# Altium footprint library CONECTER.PcbLib: 145 footprints (part 1 of 10)
Each footprint in its own frame and in the unit in brackets; x right, y up, seen from the top. Pads: shape width x height; smd on the part's side, far side on the other; paste and mask are expansions set on the pad; w line width, h text height; cw(c..) or ccw(c..) is an arc to the next point about the centre after c.
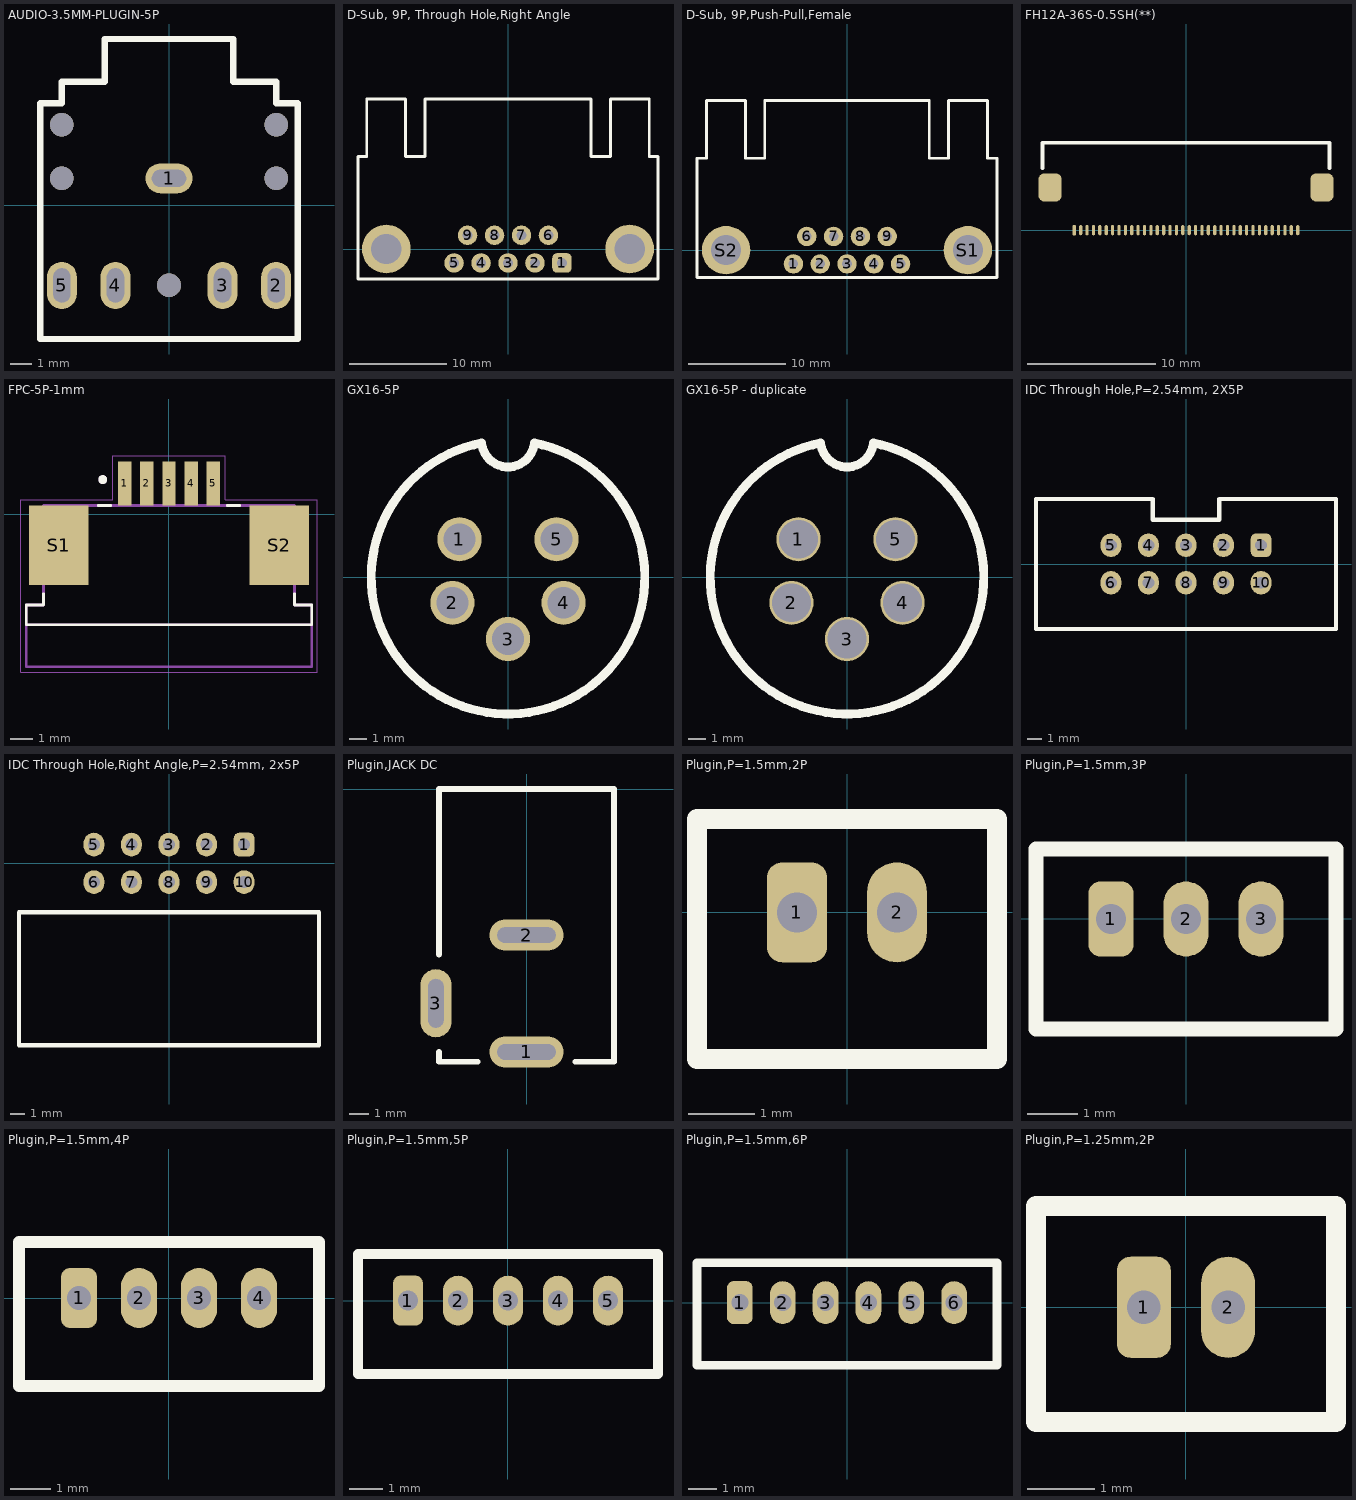
[diagram p0: the footprints below, top view; thin cyan lines are the x and y axes]

## AUDIO-3.5MM-PLUGIN-5P [mm]
pads (5):
  oval 2.2x1.4 hole 0.8 slot 1.6 at 0 deg: 1(0,1.25)
  oval 1.4x2.2 hole 0.8 slot 1.6 at 90 deg: 2(5,-3.75) 3(2.5,-3.75) 4(-2.5,-3.75) 5(-5,-3.75)
via -5,3.75 diameter 1.1 hole 1.1
via -5,1.25 diameter 1.1 hole 1.1
via 0,-3.75 diameter 1.1 hole 1.1
via 5,1.25 diameter 1.1 hole 1.1
via 5,3.75 diameter 1.1 hole 1.1
Top Overlay:
  lines w0.3: -5,5.75 -4.1,5.75 -3,5.75 -3,7.75 3,7.75 3,5.75 4.1,5.75 5,5.75 ; -5,5.75 -5,5.75 ; -5,5.75 -5,4.75 -6,4.75 -6,-6.25 6,-6.25 6,4.75 5,4.75 5,5.75 ; 5,5.75 5,5.75

## D-Sub, 9P, Through Hole,Right Angle [mm]
pads (11):
  rrect50% 2x2 hole 1 mask+0.2: 1(5.54,-1.42)
  round 2 hole 1 mask+0.2: 2(2.77,-1.42) 3(0,-1.42) 4(-2.77,-1.42) 5(-5.54,-1.42) 6(4.155,1.42) 7(1.385,1.42) 8(-1.385,1.42) 9(-4.155,1.42)
  round 5 hole 3.1 mask+0.2: ""(-12.495,0) ""(12.495,0)
Top Overlay:
  lines w0.3: -15.4,9.5 -15.4,-3.08 15.4,-3.08 15.4,9.5 ; -15.4,9.52 -14.505,9.52 -14.505,15.42 -10.505,15.42 -10.505,9.52 -8.5,9.52 -8.5,15.42 8.5,15.42 8.5,9.52 10.505,9.52 10.505,15.42 14.505,15.42 14.505,9.52 15.4,9.52
3D body "DS1037-9M.STEP": height 12.5, standoff -4.4, extent -15.5,-3.08 15.5,15.42

## D-Sub, 9P,Push-Pull,Female [mm]
pads (11):
  round 2 hole 1 mask+0.2: 1(-5.54,-1.42) 2(-2.77,-1.42) 3(0,-1.42) 4(2.77,-1.42) 5(5.54,-1.42) 6(-4.155,1.42) 7(-1.385,1.42) 8(1.385,1.42) 9(4.155,1.42)
  round 5 hole 3.1 mask+0.2: S1(12.495,0) S2(-12.495,0)
Top Overlay:
  lines w0.3: -15.505,-2.83 15.505,-2.83 15.505,9.5 14.505,9.5 14.505,15.47 10.505,15.47 10.505,9.5 8.5,9.5 8.5,15.47 -8.5,15.47 -8.5,9.5 -10.505,9.5 -10.505,15.47 -14.505,15.47 -14.505,9.5 -15.505,9.5 -15.505,-2.83
3D body "DS1037-9F.STEP": height 12.5, standoff -4.4, extent -15.5,-2.83 15.5,15.47

## FH12A-36S-0.5SH(**) [mm]
pads (38):
  rrect50% 0.25x0.8 smd: 1(-8.75,0)
  oval 0.25x0.8 smd: 2(-8.25,0) 3(-7.75,0) 4(-7.25,0) 5(-6.75,0) 6(-6.25,0) 7(-5.75,0) 8(-5.25,0) 9(-4.75,0) 10(-4.25,0) 11(-3.75,0) 12(-3.25,0) 13(-2.75,0) 14(-2.25,0) 15(-1.75,0) 16(-1.25,0) 17(-0.75,0) 18(-0.25,0) 19(0.25,0) 20(0.75,0) 21(1.25,0) 22(1.75,0) 23(2.25,0) 24(2.75,0) 25(3.25,0) 26(3.75,0) 27(4.25,0) 28(4.75,0) 29(5.25,0) 30(5.75,0) 31(6.25,0) 32(6.75,0) 33(7.25,0) 34(7.75,0) 35(8.25,0) 36(8.75,0)
  rrect50% 1.8x2.2 smd: ""(-10.65,3.35) ""(10.65,3.35)
Top Overlay:
  lines w0.3: -11.25,4.85 -11.25,6.85 11.25,6.85 11.25,4.85
3D body "FH12A-36S-0.5SH.stp": height 2.05, standoff -0.1, extent -11.25,-0.1 11.25,6.9

## FPC-5P-1mm [mm]
pads (7):
  rect 0.61x2 smd: 1(-2,1.4) 2(-1,1.4) 3(0,1.4) 4(1,1.4) 5(2,1.4)
  rect 2.68x3.6 smd: S1(-4.99,-1.4) S2(4.99,-1.4)
Top Overlay:
  circle w0.2: c-3,1.57 r0.1
  lines w0.127: -5.675,-3.6 -5.675,-4.11 -6.46,-4.11 -6.46,-5 6.46,-5 6.46,-4.11 5.675,-4.11 5.675,-3.6 ; -3.2,0.4 -2.64,0.4 ; 2.64,0.4 3.2,0.4
3D:
  circle w0.2: c-3,1.57 r0.1
  lines w0.127: -6.46,-5 -6.46,-6.9 6.46,-6.9 6.46,-5 ; -6.46,-5 6.46,-5 ; -6.46,-5 -6.46,-4.11 -5.675,-4.11 -5.675,0.4 5.675,0.4 5.675,-4.11 6.46,-4.11 6.46,-5
Mechanical 15:
  lines w0.05: -6.71,-7.15 6.71,-7.15 6.71,0.65 2.555,0.65 2.555,2.65 -2.555,2.65 -2.555,0.65 -6.71,0.65 -6.71,-7.15
3D body "84952-5.stp": height 2.24, standoff -0.32, extent -6.465,-4.837 6.465,1.703

## GX16-5P [mm]
pads (5):
  round 2.5 hole 1.8: 1(-2.75,2.15) 2(-3.15,-1.45) 3(0,-3.5) 4(3.15,-1.45) 5(2.75,2.15)
Top Overlay:
  lines w0.5: -1.493,7.605 ccw(c0,0) 1.493,7.605 cw(c0,7.75) -1.493,7.605
3D body "GX-16 Connector 5 Pins.stp": height 19, standoff -1, extent -9.5,-10.989 9.5,10.95

## GX16-5P - duplicate [mm]
pads (5):
  round 2.5 hole 2.2: 1(-2.75,2.15) 2(-3.15,-1.45) 3(0,-3.5) 4(3.15,-1.45) 5(2.75,2.15)
Top Overlay:
  lines w0.5: -1.493,7.605 ccw(c0,0) 1.493,7.605 cw(c0,7.75) -1.493,7.605
3D body "GX-16 Connector 5 Pins.stp": height 19, standoff -1, extent -9.5,-10.989 9.5,10.95

## IDC Through Hole,P=2.54mm, 2X5P [mm]
pads (10):
  rrect50% 1.4x1.6 hole 0.8 mask+0.15: 1(5.08,1.27)
  oval 1.4x1.6 hole 0.8 mask+0.15: 2(2.54,1.27) 3(0,1.27) 4(-2.54,1.27) 5(-5.08,1.27) 6(-5.08,-1.27) 7(-2.54,-1.27) 8(0,-1.27) 9(2.54,-1.27) 10(5.08,-1.27)
Top Overlay:
  lines w0.3: -10.15,-4.4 10.15,-4.4 10.15,4.4 5.075,4.4 2.25,4.4 2.25,3 -2.25,3 -2.25,4.4 -5.075,4.4 -10.15,4.4 -10.15,-4.4
3D body "BH-10.STEP": height 9, standoff -3.4, extent -10.15,-4.7 10.15,4.3

## IDC Through Hole,Right Angle,P=2.54mm, 2x5P [mm]
pads (10):
  rrect50% 1.4x1.6 hole 0.8 mask+0.15: 1(5.08,1.27)
  oval 1.4x1.6 hole 0.8 mask+0.15: 2(2.54,1.27) 3(0,1.27) 4(-2.54,1.27) 5(-5.08,1.27) 6(-5.08,-1.27) 7(-2.54,-1.27) 8(0,-1.27) 9(2.54,-1.27) 10(5.08,-1.27)
Top Overlay:
  lines w0.3: -10.15,-12.31 10.15,-12.31 10.15,-3.31 -10.15,-3.31 -10.15,-12.31
3D body "BH-10R.step": height 9, standoff -3.63, extent -10.15,-12.31 10.15,1.491

## Plugin,JACK DC [mm]
pads (3):
  oval 3.8x1.6 hole 0.8 slot 3 at 0 deg mask+0.2: 1(0,-13.5) 2(0,-7.5)
  oval 1.6x3.5 hole 0.8 slot 2.5 at 90 deg mask+0.2: 3(-4.65,-11)
Top Overlay:
  lines w0.3: -4.5,-13.5 -4.5,-14 -2.5,-14 ; -4.5,-8.5 -4.5,0 4.5,0 4.5,-14 ; 2.5,-14 4.45,-14
3D body "Same_Sky_PJ-035D[1].step": height 11, standoff -4, extent -4.95,-14.05 4.5,0

## Plugin,P=1.5mm,2P [mm]
pads (2):
  rrect50% 0.9x1.5 hole 0.6: 1(-0.75,0)
  oval 0.9x1.5 hole 0.6: 2(0.75,0)
Top Overlay:
  lines w0.3: -2.25,-2.2 2.25,-2.2 2.25,1.4 -2.25,1.4 -2.25,-2.2
3D body "jst-1.5mm-2P.STEP": height 4.5, standoff -2.7, extent -2.25,-2.15 2.25,1.35

## Plugin,P=1.5mm,3P [mm]
pads (3):
  rrect50% 0.9x1.5 hole 0.6: 1(-1.5,0)
  oval 0.9x1.5 hole 0.6: 2(0,0) 3(1.5,0)
Top Overlay:
  lines w0.3: -3,-2.2 3,-2.2 3,1.4 -3,1.4 -3,-2.2
3D body "jst-1.5mm-3P.STEP": height 4.5, standoff -2.7, extent -3,-2.15 3,1.35

## Plugin,P=1.5mm,4P [mm]
pads (4):
  rrect50% 0.9x1.5 hole 0.6: 1(-2.25,0)
  oval 0.9x1.5 hole 0.6: 2(-0.75,0) 3(0.75,0) 4(2.25,0)
Top Overlay:
  lines w0.3: -3.75,-2.2 -3.75,1.4 3.75,1.4 3.75,-2.2 -3.75,-2.2
3D body "jst-1.5mm-4P.STEP": height 4.5, standoff -2.7, extent -3.75,-2.15 3.75,1.35

## Plugin,P=1.5mm,5P [mm]
pads (5):
  rrect50% 0.9x1.5 hole 0.6: 1(-3,0)
  oval 0.9x1.5 hole 0.6: 2(-1.5,0) 3(0,0) 4(1.5,0) 5(3,0)
Top Overlay:
  lines w0.3: -4.5,-2.2 -4.5,1.4 4.5,1.4 4.5,-2.2 -4.5,-2.2
3D body "jst-1.5mm-5P.STEP": height 4.5, standoff -2.7, extent -4.5,-2.15 4.5,1.35

## Plugin,P=1.5mm,6P [mm]
pads (6):
  rrect50% 0.9x1.5 hole 0.6: 1(-3.75,0)
  oval 0.9x1.5 hole 0.6: 2(-2.25,0) 3(-0.75,0) 4(0.75,0) 5(2.25,0) 6(3.75,0)
Top Overlay:
  lines w0.3: -5.25,-2.2 5.25,-2.2 5.25,1.4 -5.25,1.4 -5.25,-2.2
3D body "jst-1.5mm-6P.STEP": height 4.5, standoff -2.7, extent -5.25,-2.15 5.25,1.35

## Plugin,P=1.25mm,2P [mm]
pads (2):
  rrect50% 0.8x1.5 hole 0.5: 1(-0.625,0)
  oval 0.8x1.5 hole 0.5: 2(0.625,0)
Top Overlay:
  lines w0.3: -2.225,-1.7 -2.225,1.5 2.225,1.5 2.225,-1.7 -2.225,-1.7
3D body "1734598-2.stp": height 1.4, standoff -5, extent -2.137,-1.694 2.113,1.506